# EAGLE library part ARDUINO_UNO_SIZE_MCU_BOARD_NO_PWR (library ihpcb-arduino)
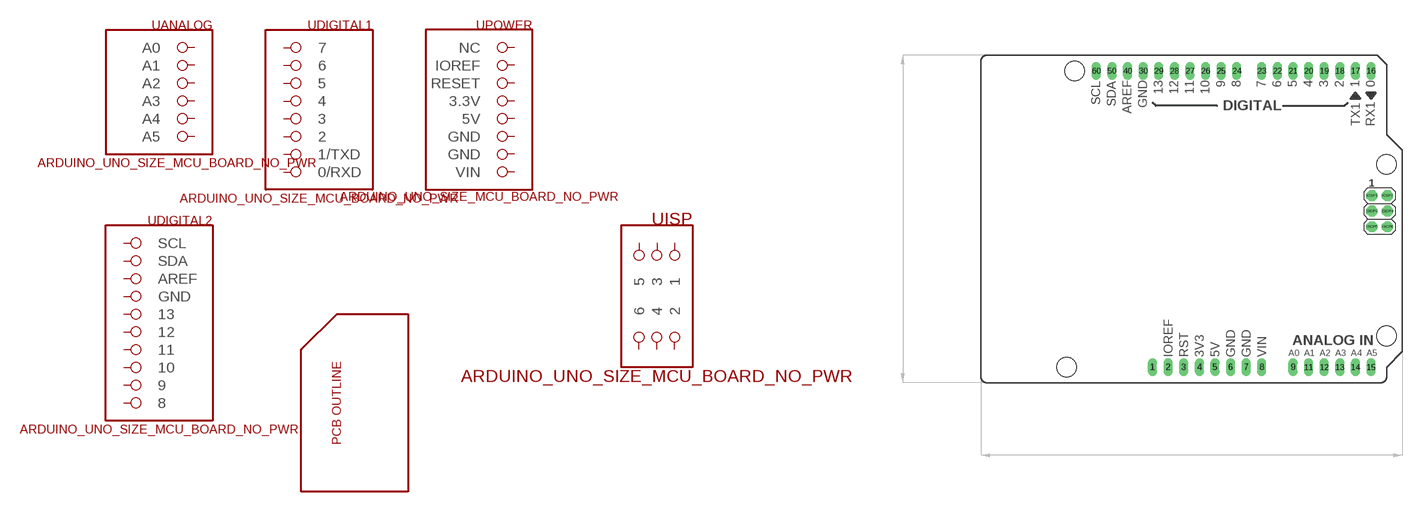
[diagram p1: symbol with the pads of STANDARD_NO_PWR; footprint STANDARD_NO_PWR]

Designator prefix -; gates ISP=3X2_ARDUINO_ISP_HEADER ANALOG=6X1_ARDUINO_ANALOG_HEADER DIGITAL1=8X1_ARDUINO_DIGITAL_HEADER POWER=8X1_ARDUINO_POWER_HEADER DIGITAL2=10X1_ARDUINO_DIGITAL_HEADER G$6=PCB_DIMENTION

## ARDUINO_UNO_SIZE_MCU_BOARD_NO_PWR  [STANDARD_NO_PWR]
1  POWER:NC
2  POWER:IOREF
3  POWER:RESET
4  POWER:3.3V
5  POWER:5V
6  POWER:GND
7  POWER:GND
8  POWER:VIN
9  ANALOG:A0
11  ANALOG:A1
12  ANALOG:A2
13  ANALOG:A3
14  ANALOG:A4
15  ANALOG:A5
16  DIGITAL1:0/RXD
17  DIGITAL1:1/TXD
18  DIGITAL1:2
19  DIGITAL1:3
20  DIGITAL1:4
21  DIGITAL1:5
22  DIGITAL1:6
23  DIGITAL1:7
24  DIGITAL2:8
25  DIGITAL2:9
26  DIGITAL2:10
27  DIGITAL2:11
28  DIGITAL2:12
29  DIGITAL2:13
30  DIGITAL2:GND
40  DIGITAL2:AREF
50  DIGITAL2:SDA
60  DIGITAL2:SCL
ICSP1  ISP:1
ICSP2  ISP:2
ISCP3  ISP:3
ISCP4  ISP:4
ISCP5  ISP:5
ISCP6  ISP:6

## Footprint STANDARD_NO_PWR (pad centres in mm)
drill 0.98 long: 1 27.94,2.54; 2 30.48,2.54; 3 33.02,2.54; 4 35.56,2.54; 5 38.1,2.54; 6 40.64,2.54; 7 43.18,2.54; 8 45.72,2.54; 9 50.8,2.54; 11 53.34,2.54; 12 55.88,2.54; 13 58.42,2.54; 14 60.96,2.54; 15 63.5,2.54; 16 63.5,50.8; 17 60.96,50.8; 18 58.42,50.8; 19 55.88,50.8; 20 53.34,50.8; 21 50.8,50.8; 22 48.26,50.8; 23 45.72,50.8; 24 41.656,50.8; 25 39.116,50.8; 26 36.576,50.8; 27 34.036,50.8; 28 31.496,50.8; 29 28.956,50.8; 30 26.416,50.8; 40 23.876,50.8; 50 21.336,50.8; 60 18.796,50.8
drill 0.98 pad 1.778 octagon: ICSP1 63.627,30.48; ICSP2 66.167,30.48; ISCP3 63.627,27.94; ISCP4 66.167,27.94; ISCP5 63.627,25.4; ISCP6 66.167,25.4
hole 3.2 at 13.97,2.54
hole 3.2 at 15.24,50.8
hole 3.2 at 66.04,35.56
hole 3.2 at 66.04,7.62